# EAGLE library part EA_DOGMXXX-A (library Radio Projekt)
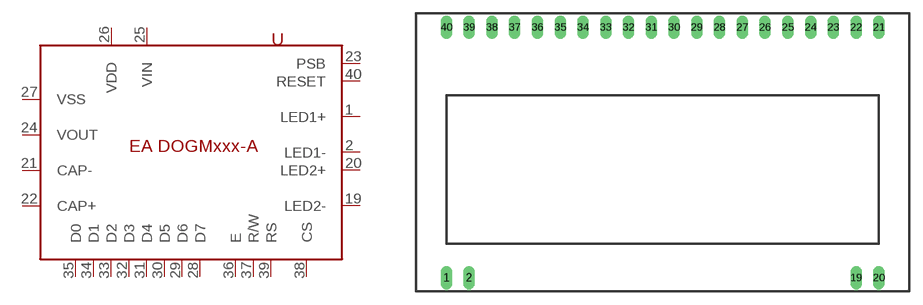
[diagram p7: symbol with the pads of EA_DOGMXXX-A; footprint EA_DOGMXXX-A]

Designator prefix -

## EA_DOGMXXX-A  [EA_DOGMXXX-A]
1  LED1+
2  LED1-
19  LED2-
20  LED2+
21  CAP-
22  CAP+
23  PSB
24  VOUT
25  VIN
26  VDD
27  VSS
28  D7
29  D6
30  D5
31  D4
32  D3
33  D2
34  D1
35  D0
36  E
37  R/W
38  CS
39  RS
40  RESET

## Footprint EA_DOGMXXX-A (pad centres in mm)
drill 0.8 long: 1 -24.13,-13.97; 2 -21.59,-13.97; 19 21.59,-13.97; 20 24.13,-13.97; 21 24.13,13.97; 22 21.59,13.97; 23 19.05,13.97; 24 16.51,13.97; 25 13.97,13.97; 26 11.43,13.97; 27 8.89,13.97; 28 6.35,13.97; 29 3.81,13.97; 30 1.27,13.97; 31 -1.27,13.97; 32 -3.81,13.97; 33 -6.35,13.97; 34 -8.89,13.97; 35 -11.43,13.97; 36 -13.97,13.97; 37 -16.51,13.97; 38 -19.05,13.97; 39 -21.59,13.97; 40 -24.13,13.97